# Altium footprint library UNG8266_A.PcbLib: 3 footprints
Each footprint in its own frame and in the unit in brackets; x right, y up, seen from the top. Pads: shape width x height; smd on the part's side, far side on the other; paste and mask are expansions set on the pad; w line width, h text height; cw(c..) or ccw(c..) is an arc to the next point about the centre after c.
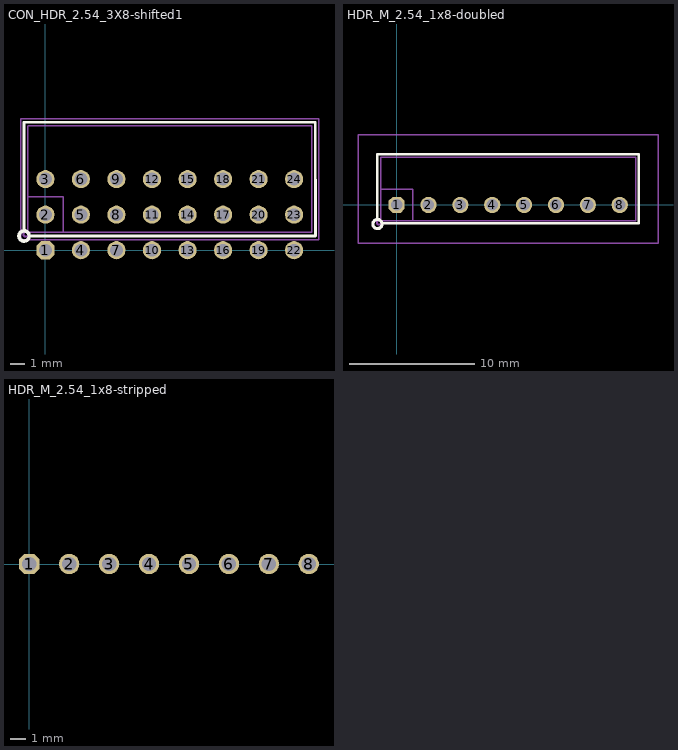
[diagram p0: the footprints below, top view; thin cyan lines are the x and y axes]

## CON_HDR_2.54_3X8-shifted1 [mil] "Header Male Vertical Triple Row 8 Way 2.54mm Pitch"
height 98.43
pads (24):
  oct 51x51 hole 36: 1(0,0)
  round 51 hole 36: 2(0,100) 3(0,200) 4(100,0) 5(100,100) 6(100,200) 7(200,0) 8(200,100) 9(200,200) 10(300,0) 11(300,100) 12(300,200) 13(400,0) 14(400,100) 15(400,200) 16(500,0) 17(500,100) 18(500,200) 19(600,0) 20(600,100) 21(600,200) 22(700,0) 23(700,100) 24(700,200)
Top Overlay:
  circle w10: c-60,40 r14.33
  lines w7.87: -60,57.5 -60,360 759.73,360 760.24,40 -42.5,40
Mechanical 11:
  circle w5.91: c-55,45 r7
  lines w3.94: -49.5,50 -49.5,350 ; -49.5,150 50,150 50,50 ; -49,350 749.49,350 749.49,50 -47.5,50
Mechanical 15:
  lines w3.94: -70,30 770,30 770,370 -70,370 -70,30
Top Courtyard:
  lines w3.94: -19.68,100 19.69,100 ; 0,80.32 0,119.69
Top Assembly:
  text ".Designator" at 210,150 h60
  text "1" at -5,85 h39.37
3D body: height 283, standoff -90, extent -12.5,287.5 12.5,312.5
3D body: height 283, standoff -90, extent 87.5,287.5 112.5,312.5
3D body: height 283, standoff -90, extent 187.5,287.5 212.5,312.5
3D body: height 283, standoff -90, extent 287.5,287.5 312.5,312.5
3D body: height 283, standoff -90, extent -12.5,187.5 12.5,212.5
3D body: height 283, standoff -90, extent 87.5,187.5 112.5,212.5
3D body: height 283, standoff -90, extent 187.5,187.5 212.5,212.5
3D body: height 283, standoff -90, extent 287.5,187.5 312.5,212.5
3D body: height 283, standoff -90, extent 287.5,87.5 312.5,112.5
3D body: height 283, standoff -90, extent 187.5,87.5 212.5,112.5
3D body: height 283, standoff -90, extent 87.5,87.5 112.5,112.5
3D body: height 283, standoff -90, extent -12.5,87.5 12.5,112.5
3D body: height 283, standoff -90, extent 387.5,87.5 412.5,112.5
3D body: height 283, standoff -90, extent 487.5,87.5 512.5,112.5
3D body: height 283, standoff -90, extent 587.5,87.5 612.5,112.5
3D body: height 283, standoff -90, extent 587.5,187.5 612.5,212.5
3D body: height 283, standoff -90, extent 487.5,187.5 512.5,212.5
3D body: height 283, standoff -90, extent 387.5,187.5 412.5,212.5
3D body: height 283, standoff -90, extent 587.5,287.5 612.5,312.5
3D body: height 283, standoff -90, extent 487.5,287.5 512.5,312.5
3D body: height 283, standoff -90, extent 387.5,287.5 412.5,312.5
3D body: height 283, standoff -90, extent 187.5,287.5 212.5,312.5
3D body: height 283, standoff -90, extent 87.5,287.5 112.5,312.5
3D body: height 283, standoff -90, extent -12.5,287.5 12.5,312.5
3D body: height 320, standoff -130, extent -12.5,287.5 12.5,312.5
3D body: height 330, standoff 320, extent -5,295 5,305
3D body: height 330, standoff 320, extent -12.5,295 -2.5,305
3D body: height 330, standoff 320, extent -5,287.5 5,297.5
3D body: height 330, standoff 320, extent 2.5,295 12.5,305
3D body: height 330, standoff 320, extent -5,302.5 5,312.5
3D body: height 320, standoff -130, extent 87.5,287.5 112.5,312.5
3D body: height 330, standoff 320, extent 95,295 105,305
3D body: height 330, standoff 320, extent 87.5,295 97.5,305
3D body: height 330, standoff 320, extent 95,287.5 105,297.5
3D body: height 330, standoff 320, extent 102.5,295 112.5,305
3D body: height 330, standoff 320, extent 95,302.5 105,312.5
3D body: height 320, standoff -130, extent 187.5,287.5 212.5,312.5
3D body: height 330, standoff 320, extent 195,295 205,305
3D body: height 330, standoff 320, extent 187.5,295 197.5,305
3D body: height 330, standoff 320, extent 195,287.5 205,297.5
3D body: height 330, standoff 320, extent 202.5,295 212.5,305
3D body: height 330, standoff 320, extent 195,302.5 205,312.5
3D body: height 330, standoff 320, extent -5,87.5 5,97.5
3D body: height 330, standoff 320, extent -12.5,95 -2.5,105
3D body: height 330, standoff 320, extent -5,102.5 5,112.5
3D body: height 330, standoff 320, extent 2.5,95 12.5,105
3D body: height 330, standoff 320, extent -5,95 5,105
3D body: height 320, standoff -130, extent -12.5,87.5 12.5,112.5
3D body: height 330, standoff 320, extent -5,187.49 5,197.5
3D body: height 330, standoff 320, extent -12.5,195 -2.5,205
3D body: height 330, standoff 320, extent -5,202.5 5,212.5
3D body: height 330, standoff 320, extent 2.5,195 12.5,205
3D body: height 330, standoff 320, extent -5,195 5,205
3D body: height 320, standoff -130, extent -12.5,187.5 12.5,212.5
3D body: height 330, standoff 320, extent 95,87.5 105,97.5
3D body: height 330, standoff 320, extent 87.5,95 97.5,105
3D body: height 330, standoff 320, extent 95,102.5 105,112.5
3D body: height 330, standoff 320, extent 102.5,95 112.5,105
3D body: height 330, standoff 320, extent 95,95 105,105
3D body: height 320, standoff -130, extent 87.5,87.5 112.5,112.5
3D body: height 330, standoff 320, extent 95,187.49 105,197.5
3D body: height 330, standoff 320, extent 87.5,195 97.5,205
3D body: height 330, standoff 320, extent 95,202.5 105,212.5
3D body: height 330, standoff 320, extent 102.5,195 112.5,205
3D body: height 330, standoff 320, extent 95,195 105,205
3D body: height 320, standoff -130, extent 87.5,187.5 112.5,212.5
3D body: height 330, standoff 320, extent 195,87.5 205,97.5
3D body: height 330, standoff 320, extent 187.5,95 197.5,105
3D body: height 330, standoff 320, extent 195,102.5 205,112.5
3D body: height 330, standoff 320, extent 202.5,95 212.5,105
3D body: height 330, standoff 320, extent 195,95 205,105
3D body: height 320, standoff -130, extent 187.5,87.5 212.5,112.5
3D body: height 330, standoff 320, extent 195,187.49 205,197.5
3D body: height 330, standoff 320, extent 187.5,195 197.5,205
3D body: height 330, standoff 320, extent 195,202.5 205,212.5
3D body: height 330, standoff 320, extent 202.5,195 212.5,205
3D body: height 330, standoff 320, extent 195,195 205,205
3D body: height 320, standoff -130, extent 187.5,187.5 212.5,212.5
3D body: height 283, standoff -90, extent -12.5,287.5 12.5,312.5
3D body: height 283, standoff -90, extent 87.5,287.5 112.5,312.5
3D body: height 283, standoff -90, extent 187.5,287.5 212.5,312.5
3D body: height 283, standoff -90, extent -12.5,187.5 12.5,212.5
3D body: height 283, standoff -90, extent 87.5,187.5 112.5,212.5
3D body: height 283, standoff -90, extent 187.5,187.5 212.5,212.5
3D body: height 283, standoff -90, extent 187.5,87.5 212.5,112.5
3D body: height 283, standoff -90, extent 87.5,87.5 112.5,112.5
3D body: height 283, standoff -90, extent -12.5,87.5 12.5,112.5
3D body: height 283, standoff -90, extent 487.5,287.5 512.5,312.5
3D body: height 283, standoff -90, extent 387.5,287.5 412.5,312.5
3D body: height 283, standoff -90, extent 287.5,287.5 312.5,312.5
3D body: height 320, standoff -130, extent 287.5,287.5 312.5,312.5
3D body: height 330, standoff 320, extent 295,295 305,305
3D body: height 330, standoff 320, extent 287.5,295 297.5,305
3D body: height 330, standoff 320, extent 295,287.5 305,297.5
3D body: height 330, standoff 320, extent 302.5,295 312.5,305
3D body: height 330, standoff 320, extent 295,302.5 305,312.5
3D body: height 320, standoff -130, extent 387.5,287.5 412.5,312.5
3D body: height 330, standoff 320, extent 395,295 405,305
3D body: height 330, standoff 320, extent 387.5,295 397.5,305
3D body: height 330, standoff 320, extent 395,287.5 405,297.5
3D body: height 330, standoff 320, extent 402.5,295 412.5,305
3D body: height 330, standoff 320, extent 395,302.5 405,312.5
3D body: height 320, standoff -130, extent 487.5,287.5 512.5,312.5
3D body: height 330, standoff 320, extent 495,295 505,305
3D body: height 330, standoff 320, extent 487.5,295 497.5,305
3D body: height 330, standoff 320, extent 495,287.5 505,297.5
3D body: height 330, standoff 320, extent 502.5,295 512.5,305
3D body: height 330, standoff 320, extent 495,302.5 505,312.5
3D body: height 330, standoff 320, extent 295,87.5 305,97.5
3D body: height 330, standoff 320, extent 287.5,95 297.5,105
3D body: height 330, standoff 320, extent 295,102.5 305,112.5
3D body: height 330, standoff 320, extent 302.5,95 312.5,105
3D body: height 330, standoff 320, extent 295,95 305,105
3D body: height 320, standoff -130, extent 287.5,87.5 312.5,112.5
3D body: height 330, standoff 320, extent 295,187.49 305,197.5
3D body: height 330, standoff 320, extent 287.5,195 297.5,205
3D body: height 330, standoff 320, extent 295,202.5 305,212.5
3D body: height 330, standoff 320, extent 302.5,195 312.5,205
3D body: height 330, standoff 320, extent 295,195 305,205
3D body: height 320, standoff -130, extent 287.5,187.5 312.5,212.5
3D body: height 330, standoff 320, extent 395,87.5 405,97.5
3D body: height 330, standoff 320, extent 387.5,95 397.5,105
3D body: height 330, standoff 320, extent 395,102.5 405,112.5
3D body: height 330, standoff 320, extent 402.5,95 412.5,105
3D body: height 330, standoff 320, extent 395,95 405,105
3D body: height 320, standoff -130, extent 387.5,87.5 412.5,112.5
3D body: height 330, standoff 320, extent 395,187.49 405,197.5
3D body: height 330, standoff 320, extent 387.5,195 397.5,205
3D body: height 330, standoff 320, extent 395,202.5 405,212.5
3D body: height 330, standoff 320, extent 402.5,195 412.5,205
3D body: height 330, standoff 320, extent 395,195 405,205
3D body: height 320, standoff -130, extent 387.5,187.5 412.5,212.5
3D body: height 330, standoff 320, extent 495,87.5 505,97.5
3D body: height 330, standoff 320, extent 487.5,95 497.5,105
3D body: height 330, standoff 320, extent 495,102.5 505,112.5
3D body: height 330, standoff 320, extent 502.5,95 512.5,105
3D body: height 330, standoff 320, extent 495,95 505,105
3D body: height 320, standoff -130, extent 487.5,87.5 512.5,112.5
3D body: height 330, standoff 320, extent 495,187.49 505,197.5
3D body: height 330, standoff 320, extent 487.5,195 497.5,205
3D body: height 330, standoff 320, extent 495,202.5 505,212.5
3D body: height 330, standoff 320, extent 502.5,195 512.5,205
3D body: height 330, standoff 320, extent 495,195 505,205
3D body: height 320, standoff -130, extent 487.5,187.5 512.5,212.5
3D body: height 283, standoff -90, extent 287.5,287.5 312.5,312.5
3D body: height 283, standoff -90, extent 387.5,287.5 412.5,312.5
3D body: height 283, standoff -90, extent 487.5,287.5 512.5,312.5
3D body: height 283, standoff -90, extent 287.5,187.5 312.5,212.5
3D body: height 283, standoff -90, extent 387.5,187.5 412.5,212.5
3D body: height 283, standoff -90, extent 487.5,187.5 512.5,212.5
3D body: height 283, standoff -90, extent 487.5,87.5 512.5,112.5
3D body: height 283, standoff -90, extent 387.5,87.5 412.5,112.5
3D body: height 283, standoff -90, extent 287.5,87.5 312.5,112.5
3D body: height 283, standoff -90, extent 587.5,287.5 612.5,312.5
3D body: height 320, standoff -130, extent 587.5,287.5 612.5,312.5
3D body: height 330, standoff 320, extent 595,295 605,305
3D body: height 330, standoff 320, extent 587.5,295 597.5,305
3D body: height 330, standoff 320, extent 595,287.5 605,297.5
3D body: height 330, standoff 320, extent 602.5,295 612.5,305
3D body: height 330, standoff 320, extent 595,302.5 605,312.5
3D body: height 330, standoff 320, extent 595,87.5 605,97.5
3D body: height 330, standoff 320, extent 587.5,95 597.5,105
3D body: height 330, standoff 320, extent 595,102.5 605,112.5
3D body: height 330, standoff 320, extent 602.5,95 612.5,105
3D body: height 330, standoff 320, extent 595,95 605,105
3D body: height 320, standoff -130, extent 587.5,87.5 612.5,112.5
3D body: height 330, standoff 320, extent 595,187.49 605,197.5
3D body: height 330, standoff 320, extent 587.5,195 597.5,205
3D body: height 330, standoff 320, extent 595,202.5 605,212.5
3D body: height 330, standoff 320, extent 602.5,195 612.5,205
3D body: height 330, standoff 320, extent 595,195 605,205
3D body: height 320, standoff -130, extent 587.5,187.5 612.5,212.5
3D body: height 283, standoff -90, extent 587.5,287.5 612.5,312.5
3D body: height 283, standoff -90, extent 587.5,187.5 612.5,212.5
3D body: height 283, standoff -90, extent 587.5,87.5 612.5,112.5
3D body: height 320, standoff -130, extent -12.5,87.5 12.5,112.5
3D body: height 25, standoff 0, extent 25,51 50,149
3D body: height 100, standoff 25, extent -50,51 50.01,149
3D body: height 25, standoff 0, extent -50,51 -25,149
3D body: height 330, standoff 320, extent -5,95 5,105
3D body: height 330, standoff 320, extent 2.5,95 12.5,105
3D body: height 330, standoff 320, extent -5,102.5 5,112.5
3D body: height 330, standoff 320, extent -12.5,95 -2.5,105
3D body: height 330, standoff 320, extent -5,87.49 5,97.5
3D body: height 320, standoff -130, extent 87.5,87.5 112.5,112.5
3D body: height 25, standoff 0, extent 125,51 150,149
3D body: height 100, standoff 25, extent 50,51 150.01,149
3D body: height 25, standoff 0, extent 50,51 75,149
3D body: height 330, standoff 320, extent 95,95 105,105
3D body: height 330, standoff 320, extent 102.5,95 112.5,105
3D body: height 330, standoff 320, extent 95,102.5 105,112.5
3D body: height 330, standoff 320, extent 87.5,95 97.5,105
3D body: height 330, standoff 320, extent 95,87.49 105,97.5
3D body: height 320, standoff -130, extent 187.5,87.5 212.5,112.5
3D body: height 25, standoff 0, extent 225,51 250,149
3D body: height 100, standoff 25, extent 150,51 250.01,149
3D body: height 25, standoff 0, extent 150,51 175,149
3D body: height 330, standoff 320, extent 195,95 205,105
3D body: height 330, standoff 320, extent 202.5,95 212.5,105
3D body: height 330, standoff 320, extent 195,102.5 205,112.5
3D body: height 330, standoff 320, extent 187.5,95 197.5,105
3D body: height 330, standoff 320, extent 195,87.49 205,97.5
3D body: height 320, standoff -130, extent 287.5,87.5 312.5,112.5
3D body: height 25, standoff 0, extent 325,51 350,149
3D body: height 100, standoff 25, extent 250,51 350.01,149
3D body: height 25, standoff 0, extent 250,51 275,149
3D body: height 330, standoff 320, extent 295,95 305,105
3D body: height 330, standoff 320, extent 302.5,95 312.5,105
3D body: height 330, standoff 320, extent 295,102.5 305,112.5
3D body: height 330, standoff 320, extent 287.5,95 297.5,105
3D body: height 330, standoff 320, extent 295,87.49 305,97.5
3D body: height 320, standoff -130, extent 387.5,87.5 412.5,112.5
3D body: height 25, standoff 0, extent 425,51 450,149
3D body: height 100, standoff 25, extent 350,51 450.01,149
3D body: height 25, standoff 0, extent 350,51 375,149
3D body: height 330, standoff 320, extent 395,95 405,105
3D body: height 330, standoff 320, extent 402.5,95 412.5,105
3D body: height 330, standoff 320, extent 395,102.5 405,112.5
3D body: height 330, standoff 320, extent 387.5,95 397.5,105
3D body: height 330, standoff 320, extent 395,87.49 405,97.5
3D body: height 320, standoff -130, extent 487.5,87.5 512.5,112.5
3D body: height 25, standoff 0, extent 525,51 550,149
3D body: height 100, standoff 25, extent 450,51 550.01,149
3D body: height 25, standoff 0, extent 450,51 475,149
3D body: height 330, standoff 320, extent 495,95 505,105
3D body: height 330, standoff 320, extent 502.5,95 512.5,105
3D body: height 330, standoff 320, extent 495,102.5 505,112.5
3D body: height 330, standoff 320, extent 487.5,95 497.5,105
3D body: height 330, standoff 320, extent 495,87.49 505,97.5
3D body: height 320, standoff -130, extent 587.5,87.5 612.5,112.5
3D body: height 25, standoff 0, extent 625,51 650,149
3D body: height 100, standoff 25, extent 550,51 650.01,149
3D body: height 25, standoff 0, extent 550,51 575,149
3D body: height 330, standoff 320, extent 595,95 605,105
3D body: height 330, standoff 320, extent 602.5,95 612.5,105
3D body: height 330, standoff 320, extent 595,102.5 605,112.5
3D body: height 330, standoff 320, extent 587.5,95 597.5,105
3D body: height 330, standoff 320, extent 595,87.49 605,97.5
3D body: height 320, standoff -130, extent 687.5,87.5 712.5,112.5
3D body: height 25, standoff 0, extent 725,51 750,149
3D body: height 100, standoff 25, extent 650,51 750.01,149
3D body: height 25, standoff 0, extent 650,51 675,149
3D body: height 330, standoff 320, extent 695,95 705,105
3D body: height 330, standoff 320, extent 702.5,95 712.5,105
3D body: height 330, standoff 320, extent 695,102.5 705,112.5
3D body: height 330, standoff 320, extent 687.5,95 697.5,105
3D body: height 330, standoff 320, extent 695,87.49 705,97.5
3D body: height 320, standoff -130, extent -12.5,187.5 12.5,212.5
3D body: height 25, standoff 0, extent 25,151 50,249
3D body: height 100, standoff 25, extent -50,151 50.01,249
3D body: height 25, standoff 0, extent -50,151 -25,249
3D body: height 330, standoff 320, extent -5,195 5,205
3D body: height 330, standoff 320, extent 2.5,195 12.5,205
3D body: height 330, standoff 320, extent -5,202.5 5,212.5
3D body: height 330, standoff 320, extent -12.5,195 -2.5,205
3D body: height 330, standoff 320, extent -5,187.49 5,197.5
3D body: height 320, standoff -130, extent 87.5,187.5 112.5,212.5
3D body: height 25, standoff 0, extent 125,151 150,249
3D body: height 100, standoff 25, extent 50,151 150.01,249
3D body: height 25, standoff 0, extent 50,151 75,249
3D body: height 330, standoff 320, extent 95,195 105,205
3D body: height 330, standoff 320, extent 102.5,195 112.5,205
3D body: height 330, standoff 320, extent 95,202.5 105,212.5
3D body: height 330, standoff 320, extent 87.5,195 97.5,205
3D body: height 330, standoff 320, extent 95,187.49 105,197.5
3D body: height 320, standoff -130, extent 187.5,187.5 212.5,212.5
3D body: height 25, standoff 0, extent 225,151 250,249
3D body: height 100, standoff 25, extent 150,151 250.01,249
3D body: height 25, standoff 0, extent 150,151 175,249
3D body: height 330, standoff 320, extent 195,195 205,205
3D body: height 330, standoff 320, extent 202.5,195 212.5,205
3D body: height 330, standoff 320, extent 195,202.5 205,212.5
3D body: height 330, standoff 320, extent 187.5,195 197.5,205
3D body: height 330, standoff 320, extent 195,187.49 205,197.5
3D body: height 320, standoff -130, extent 287.5,187.5 312.5,212.5
3D body: height 25, standoff 0, extent 325,151 350,249
3D body: height 100, standoff 25, extent 250,151 350.01,249
3D body: height 25, standoff 0, extent 250,151 275,249
3D body: height 330, standoff 320, extent 295,195 305,205
3D body: height 330, standoff 320, extent 302.5,195 312.5,205
3D body: height 330, standoff 320, extent 295,202.5 305,212.5
3D body: height 330, standoff 320, extent 287.5,195 297.5,205
3D body: height 330, standoff 320, extent 295,187.49 305,197.5
3D body: height 320, standoff -130, extent 387.5,187.5 412.5,212.5
3D body: height 25, standoff 0, extent 425,151 450,249
3D body: height 100, standoff 25, extent 350,151 450.01,249
3D body: height 25, standoff 0, extent 350,151 375,249
3D body: height 330, standoff 320, extent 395,195 405,205
3D body: height 330, standoff 320, extent 402.5,195 412.5,205
3D body: height 330, standoff 320, extent 395,202.5 405,212.5
3D body: height 330, standoff 320, extent 387.5,195 397.5,205
3D body: height 330, standoff 320, extent 395,187.49 405,197.5
3D body: height 320, standoff -130, extent 487.5,187.5 512.5,212.5
3D body: height 25, standoff 0, extent 525,151 550,249
3D body: height 100, standoff 25, extent 450,151 550.01,249
3D body: height 25, standoff 0, extent 450,151 475,249
3D body: height 330, standoff 320, extent 495,195 505,205
3D body: height 330, standoff 320, extent 502.5,195 512.5,205
3D body: height 330, standoff 320, extent 495,202.5 505,212.5
3D body: height 330, standoff 320, extent 487.5,195 497.5,205
3D body: height 330, standoff 320, extent 495,187.49 505,197.5
3D body: height 320, standoff -130, extent 587.5,187.5 612.5,212.5
3D body: height 25, standoff 0, extent 625,151 650,249
3D body: height 100, standoff 25, extent 550,151 650.01,249
3D body: height 25, standoff 0, extent 550,151 575,249
3D body: height 330, standoff 320, extent 595,195 605,205
3D body: height 330, standoff 320, extent 602.5,195 612.5,205
3D body: height 330, standoff 320, extent 595,202.5 605,212.5
3D body: height 330, standoff 320, extent 587.5,195 597.5,205
3D body: height 330, standoff 320, extent 595,187.49 605,197.5
3D body: height 320, standoff -130, extent 687.5,187.5 712.5,212.5
3D body: height 25, standoff 0, extent 725,151 750,249
3D body: height 100, standoff 25, extent 650,151 750.01,249
3D body: height 25, standoff 0, extent 650,151 675,249
3D body: height 330, standoff 320, extent 695,195 705,205
3D body: height 330, standoff 320, extent 702.5,195 712.5,205
3D body: height 330, standoff 320, extent 695,202.5 705,212.5
3D body: height 330, standoff 320, extent 687.5,195 697.5,205
3D body: height 330, standoff 320, extent 695,187.49 705,197.5
3D body: height 320, standoff -130, extent -12.5,287.5 12.5,312.5
3D body: height 25, standoff 0, extent 25,251 50,349
3D body: height 100, standoff 25, extent -50,251 50.01,349
3D body: height 25, standoff 0, extent -50,251 -25,349
3D body: height 330, standoff 320, extent -5,295 5,305
3D body: height 330, standoff 320, extent 2.5,295 12.5,305
3D body: height 330, standoff 320, extent -5,302.5 5,312.5
3D body: height 330, standoff 320, extent -12.5,295 -2.5,305
3D body: height 330, standoff 320, extent -5,287.49 5,297.5
3D body: height 320, standoff -130, extent 87.5,287.5 112.5,312.5
3D body: height 25, standoff 0, extent 125,251 150,349
3D body: height 100, standoff 25, extent 50,251 150.01,349
3D body: height 25, standoff 0, extent 50,251 75,349
3D body: height 330, standoff 320, extent 95,295 105,305
3D body: height 330, standoff 320, extent 102.5,295 112.5,305
3D body: height 330, standoff 320, extent 95,302.5 105,312.5
3D body: height 330, standoff 320, extent 87.5,295 97.5,305
3D body: height 330, standoff 320, extent 95,287.49 105,297.5
3D body: height 320, standoff -130, extent 187.5,287.5 212.5,312.5
3D body: height 25, standoff 0, extent 225,251 250,349
3D body: height 100, standoff 25, extent 150,251 250.01,349
3D body: height 25, standoff 0, extent 150,251 175,349
3D body: height 330, standoff 320, extent 195,295 205,305
3D body: height 330, standoff 320, extent 202.5,295 212.5,305
3D body: height 330, standoff 320, extent 195,302.5 205,312.5
3D body: height 330, standoff 320, extent 187.5,295 197.5,305
3D body: height 330, standoff 320, extent 195,287.49 205,297.5
3D body: height 320, standoff -130, extent 287.5,287.5 312.5,312.5
3D body: height 25, standoff 0, extent 325,251 350,349
3D body: height 100, standoff 25, extent 250,251 350.01,349
3D body: height 25, standoff 0, extent 250,251 275,349
3D body: height 330, standoff 320, extent 295,295 305,305
3D body: height 330, standoff 320, extent 302.5,295 312.5,305
3D body: height 330, standoff 320, extent 295,302.5 305,312.5
3D body: height 330, standoff 320, extent 287.5,295 297.5,305
3D body: height 330, standoff 320, extent 295,287.49 305,297.5
3D body: height 320, standoff -130, extent 387.5,287.5 412.5,312.5
3D body: height 25, standoff 0, extent 425,251 450,349
3D body: height 100, standoff 25, extent 350,251 450.01,349
3D body: height 25, standoff 0, extent 350,251 375,349
3D body: height 330, standoff 320, extent 395,295 405,305
3D body: height 330, standoff 320, extent 402.5,295 412.5,305
3D body: height 330, standoff 320, extent 395,302.5 405,312.5
3D body: height 330, standoff 320, extent 387.5,295 397.5,305
3D body: height 330, standoff 320, extent 395,287.49 405,297.5
3D body: height 320, standoff -130, extent 487.5,287.5 512.5,312.5
3D body: height 25, standoff 0, extent 525,251 550,349
3D body: height 100, standoff 25, extent 450,251 550.01,349
3D body: height 25, standoff 0, extent 450,251 475,349
3D body: height 330, standoff 320, extent 495,295 505,305
3D body: height 330, standoff 320, extent 502.5,295 512.5,305
3D body: height 330, standoff 320, extent 495,302.5 505,312.5
3D body: height 330, standoff 320, extent 487.5,295 497.5,305
3D body: height 330, standoff 320, extent 495,287.49 505,297.5
3D body: height 320, standoff -130, extent 587.5,287.5 612.5,312.5
3D body: height 25, standoff 0, extent 625,251 650,349
3D body: height 100, standoff 25, extent 550,251 650.01,349
3D body: height 25, standoff 0, extent 550,251 575,349
3D body: height 330, standoff 320, extent 595,295 605,305
3D body: height 330, standoff 320, extent 602.5,295 612.5,305
3D body: height 330, standoff 320, extent 595,302.5 605,312.5
3D body: height 330, standoff 320, extent 587.5,295 597.5,305
3D body: height 330, standoff 320, extent 595,287.49 605,297.5
3D body: height 320, standoff -130, extent 687.5,287.5 712.5,312.5
3D body: height 25, standoff 0, extent 725,251 750,349
3D body: height 100, standoff 25, extent 650,251 750.01,349
3D body: height 25, standoff 0, extent 650,251 675,349
3D body: height 330, standoff 320, extent 695,295 705,305
3D body: height 330, standoff 320, extent 702.5,295 712.5,305
3D body: height 330, standoff 320, extent 695,302.5 705,312.5
3D body: height 330, standoff 320, extent 687.5,295 697.5,305
3D body: height 330, standoff 320, extent 695,287.49 705,297.5

## HDR_M_2.54_1x8-doubled [mil] "Header Male Vertical Dual Row 10 Way 2.54mm Pitch"
height 98.43
pads (8):
  oct 51x51 hole 36: 1(0,0)
  round 51 hole 36: 2(100,0) 3(200,0) 4(300,0) 5(400,0) 6(500,0) 7(600,0) 8(700,0)
Top Overlay:
  circle w10: c-60,-60 r14.33
  lines w7.87: -60,-42.5 -60,159.5 760,159.5 760,-57.5 -45,-57.5 -60,-42.5
Mechanical 11:
  circle w5.91: c-55,-55 r7
  lines w3.94: -50,50 50,50 50,-50 ; -50,149 -50,-49 750,-49 750,149.5 -50,149.5
  text ".Designator" at -65,30 h60
Mechanical 15:
  lines w3.94: -121.06,220 -121.06,-120.08 820,-120.08 820,220.08 -121.06,220.08 ; -19.68,0 19.68,0 ; 0,-19.68 0,19.68
3D body: height 320, standoff -130, extent 387.5,87.5 412.5,112.5
3D body: height 25, standoff 0, extent 425,51 450,149
3D body: height 100, standoff 25, extent 350,50 450.01,149
3D body: height 25, standoff 0, extent 350,51 375,149
3D body: height 330, standoff 320, extent 395,95 405,105
3D body: height 330, standoff 320, extent 402.5,95 412.5,105
3D body: height 330, standoff 320, extent 395,102.5 405,112.5
3D body: height 330, standoff 320, extent 387.5,95 397.5,105
3D body: height 330, standoff 320, extent 395,87.5 405,97.5
3D body: height 320, standoff -130, extent 387.5,-12.5 412.5,12.5
3D body: height 25, standoff 0, extent 425,-49 450,49
3D body: height 100, standoff 25, extent 350,-48.99 450.01,50
3D body: height 25, standoff 0, extent 350,-49 375,49
3D body: height 330, standoff 320, extent 395,-5 405,5
3D body: height 330, standoff 320, extent 402.5,-5 412.5,5
3D body: height 330, standoff 320, extent 395,2.5 405,12.5
3D body: height 330, standoff 320, extent 387.5,-5 397.5,5
3D body: height 330, standoff 320, extent 395,-12.5 405,-2.5
3D body: height 320, standoff -130, extent 287.5,87.5 312.5,112.5
3D body: height 25, standoff 0, extent 325,51 350,149
3D body: height 100, standoff 25, extent 250,50 350.01,149
3D body: height 25, standoff 0, extent 250,51 275,149
3D body: height 330, standoff 320, extent 295,95 305,105
3D body: height 330, standoff 320, extent 302.5,95 312.5,105
3D body: height 330, standoff 320, extent 295,102.5 305,112.5
3D body: height 330, standoff 320, extent 287.5,95 297.5,105
3D body: height 330, standoff 320, extent 295,87.5 305,97.5
3D body: height 320, standoff -130, extent 287.5,-12.5 312.5,12.5
3D body: height 25, standoff 0, extent 325,-49 350,49
3D body: height 100, standoff 25, extent 250,-48.99 350.01,50
3D body: height 25, standoff 0, extent 250,-49 275,49
3D body: height 330, standoff 320, extent 295,-5 305,5
3D body: height 330, standoff 320, extent 302.5,-5 312.5,5
3D body: height 330, standoff 320, extent 295,2.5 305,12.5
3D body: height 330, standoff 320, extent 287.5,-5 297.5,5
3D body: height 330, standoff 320, extent 295,-12.5 305,-2.5
3D body: height 320, standoff -130, extent 187.5,87.5 212.5,112.5
3D body: height 25, standoff 0, extent 225,51 250,149
3D body: height 100, standoff 25, extent 150,50 250.01,149
3D body: height 25, standoff 0, extent 150,51 175,149
3D body: height 330, standoff 320, extent 195,95 205,105
3D body: height 330, standoff 320, extent 202.5,95 212.5,105
3D body: height 330, standoff 320, extent 195,102.5 205,112.5
3D body: height 330, standoff 320, extent 187.5,95 197.5,105
3D body: height 330, standoff 320, extent 195,87.5 205,97.5
3D body: height 320, standoff -130, extent 187.5,-12.5 212.5,12.5
3D body: height 25, standoff 0, extent 225,-49 250,49
3D body: height 100, standoff 25, extent 150,-48.99 250.01,50
3D body: height 25, standoff 0, extent 150,-49 175,49
3D body: height 330, standoff 320, extent 195,-5 205,5
3D body: height 330, standoff 320, extent 202.5,-5 212.5,5
3D body: height 330, standoff 320, extent 195,2.5 205,12.5
3D body: height 330, standoff 320, extent 187.5,-5 197.5,5
3D body: height 330, standoff 320, extent 195,-12.5 205,-2.5
3D body: height 320, standoff -130, extent 87.5,87.5 112.5,112.5
3D body: height 25, standoff 0, extent 125,51 150,149
3D body: height 100, standoff 25, extent 50,50 150.01,149
3D body: height 25, standoff 0, extent 50,51 75,149
3D body: height 330, standoff 320, extent 95,95 105,105
3D body: height 330, standoff 320, extent 102.5,95 112.5,105
3D body: height 330, standoff 320, extent 95,102.5 105,112.5
3D body: height 330, standoff 320, extent 87.5,95 97.5,105
3D body: height 330, standoff 320, extent 95,87.5 105,97.5
3D body: height 320, standoff -130, extent 87.5,-12.5 112.5,12.5
3D body: height 25, standoff 0, extent 125,-49 150,49
3D body: height 100, standoff 25, extent 50,-48.99 150.01,50
3D body: height 25, standoff 0, extent 50,-49 75,49
3D body: height 330, standoff 320, extent 95,-5 105,5
3D body: height 330, standoff 320, extent 102.5,-5 112.5,5
3D body: height 330, standoff 320, extent 95,2.5 105,12.5
3D body: height 330, standoff 320, extent 87.5,-5 97.5,5
3D body: height 330, standoff 320, extent 95,-12.5 105,-2.5
3D body: height 320, standoff -130, extent -12.5,87.5 12.5,112.5
3D body: height 25, standoff 0, extent 25,51 50,149
3D body: height 100, standoff 25, extent -50,50 50.01,149
3D body: height 25, standoff 0, extent -50,51 -25,149
3D body: height 330, standoff 320, extent -5,95 5,105
3D body: height 330, standoff 320, extent 2.5,95 12.5,105
3D body: height 330, standoff 320, extent -5,102.5 5,112.5
3D body: height 330, standoff 320, extent -12.5,95 -2.5,105
3D body: height 330, standoff 320, extent -5,87.5 5,97.5
3D body: height 320, standoff -130, extent -12.5,-12.5 12.5,12.5
3D body: height 25, standoff 0, extent 25,-49 50,49
3D body: height 100, standoff 25, extent -50,-48.99 50.01,50
3D body: height 25, standoff 0, extent -50,-49 -25,49
3D body: height 330, standoff 320, extent -5,-5 5,5
3D body: height 330, standoff 320, extent 2.5,-5 12.5,5
3D body: height 330, standoff 320, extent -5,2.5 5,12.5
3D body: height 330, standoff 320, extent -12.5,-5 -2.5,5
3D body: height 330, standoff 320, extent -5,-12.5 5,-2.5
3D body: height 320, standoff -130, extent 687.5,87.5 712.5,112.5
3D body: height 25, standoff 0, extent 725,51 750,149
3D body: height 100, standoff 25, extent 650,50 750.01,149
3D body: height 25, standoff 0, extent 650,51 675,149
3D body: height 330, standoff 320, extent 695,95 705,105
3D body: height 330, standoff 320, extent 702.5,95 712.5,105
3D body: height 330, standoff 320, extent 695,102.5 705,112.5
3D body: height 330, standoff 320, extent 687.5,95 697.5,105
3D body: height 330, standoff 320, extent 695,87.5 705,97.5
3D body: height 320, standoff -130, extent 687.5,-12.5 712.5,12.5
3D body: height 25, standoff 0, extent 725,-49 750,49
3D body: height 100, standoff 25, extent 650,-48.99 750.01,50
3D body: height 25, standoff 0, extent 650,-49 675,49
3D body: height 330, standoff 320, extent 695,-5 705,5
3D body: height 330, standoff 320, extent 702.5,-5 712.5,5
3D body: height 330, standoff 320, extent 695,2.5 705,12.5
3D body: height 330, standoff 320, extent 687.5,-5 697.5,5
3D body: height 330, standoff 320, extent 695,-12.5 705,-2.5
3D body: height 320, standoff -130, extent 587.5,87.5 612.5,112.5
3D body: height 25, standoff 0, extent 625,51 650,149
3D body: height 100, standoff 25, extent 550,50 650.01,149
3D body: height 25, standoff 0, extent 550,51 575,149
3D body: height 330, standoff 320, extent 595,95 605,105
3D body: height 330, standoff 320, extent 602.5,95 612.5,105
3D body: height 330, standoff 320, extent 595,102.5 605,112.5
3D body: height 330, standoff 320, extent 587.5,95 597.5,105
3D body: height 330, standoff 320, extent 595,87.5 605,97.5
3D body: height 320, standoff -130, extent 587.5,-12.5 612.5,12.5
3D body: height 25, standoff 0, extent 625,-49 650,49
3D body: height 100, standoff 25, extent 550,-48.99 650.01,50
3D body: height 25, standoff 0, extent 550,-49 575,49
3D body: height 330, standoff 320, extent 595,-5 605,5
3D body: height 330, standoff 320, extent 602.5,-5 612.5,5
3D body: height 330, standoff 320, extent 595,2.5 605,12.5
3D body: height 330, standoff 320, extent 587.5,-5 597.5,5
3D body: height 330, standoff 320, extent 595,-12.5 605,-2.5
3D body: height 320, standoff -130, extent 487.5,87.5 512.5,112.5
3D body: height 25, standoff 0, extent 525,51 550,149
3D body: height 100, standoff 25, extent 450,50 550.01,149
3D body: height 25, standoff 0, extent 450,51 475,149
3D body: height 330, standoff 320, extent 495,95 505,105
3D body: height 330, standoff 320, extent 502.5,95 512.5,105
3D body: height 330, standoff 320, extent 495,102.5 505,112.5
3D body: height 330, standoff 320, extent 487.5,95 497.5,105
3D body: height 330, standoff 320, extent 495,87.5 505,97.5
3D body: height 320, standoff -130, extent 487.5,-12.5 512.5,12.5
3D body: height 25, standoff 0, extent 525,-49 550,49
3D body: height 100, standoff 25, extent 450,-48.99 550.01,50
3D body: height 25, standoff 0, extent 450,-49 475,49
3D body: height 330, standoff 320, extent 495,-5 505,5
3D body: height 330, standoff 320, extent 502.5,-5 512.5,5
3D body: height 330, standoff 320, extent 495,2.5 505,12.5
3D body: height 330, standoff 320, extent 487.5,-5 497.5,5
3D body: height 330, standoff 320, extent 495,-12.5 505,-2.5

## HDR_M_2.54_1x8-stripped [mil] "Header Male Vertical 8 Way 2.54mm Pitch"
height 98.43
pads (8):
  oct 51x51 hole 36: 1(0,0)
  round 51 hole 36: 2(100,0) 3(200,0) 4(300,0) 5(400,0) 6(500,0) 7(600,0) 8(700,0)